# Altium integrated library Cypress PLD Quantum38K.IntLib: 24 symbols (part 3 of 3)
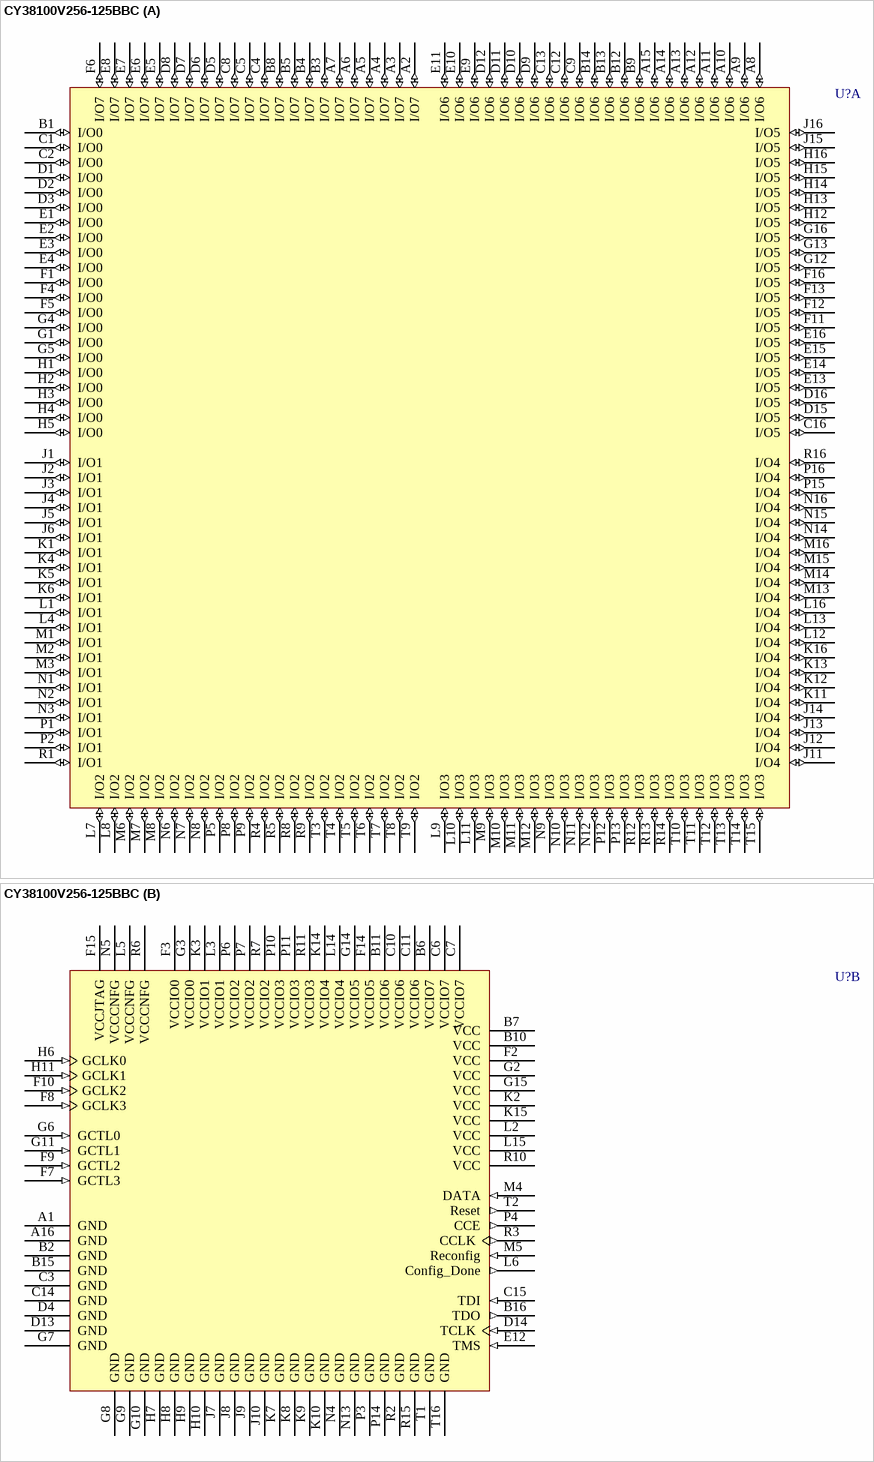
[diagram p19: symbol CY38100V256-125BBC]

## CY38100V256-125BBC
designator U?
Quantum38K ISR CPLD; ComponentAvailability: Not for New Design; Published: 11-Dec-2002; LatestRevisionDate: 13-Apr-2006; LatestRevisionNote: IPC-7351 Footprint Added.; DatasheetVersion: 17-Apr-2002; PackageVersion: revF, Oct-2003; PackageReference: BB256; Publisher: Altium Limited; PackageDescription: 256-Ball Fine Pitch Ball Grid Array 1 mm Pitch (37K & 39K CPLD Devices); Code_JEDEC: MO-192; ComponentLink1Description: Manufacturer Link; ComponentLink1URL: http://www.cypress.com/; ComponentLink2Description: Datasheet; ComponentLink2URL: http://www.cypress.com/portal/server.pt/gateway/PTARGS_0_2_1524_209_259_43/http%3B/sjapp20.mis.cypress.com%3B7001/publishedcontent/publish/design_resources/datasheets/contents/cy38030_5.pdf
footprint BB256 (BGA, 256-Leads, Body 17x17mm, Pitch 1mm)
3D model CY38100V256-BB256 (256-Ball Fine Pitch Ball Grid Array 1 mm Pitch (37K & 39K CPLD Devices))
part A pins: A2 I/O7 (io), A3 I/O7 (io), A4 I/O7 (io), A5 I/O7 (io), A6 I/O7 (io), A7 I/O7 (io), A8 I/O6 (io), A9 I/O6 (io), A10 I/O6 (io), A11 I/O6 (io), A12 I/O6 (io), A13 I/O6 (io), A14 I/O6 (io), A15 I/O6 (io), B1 I/O0 (io), B3 I/O7 (io), B4 I/O7 (io), B5 I/O7 (io), B8 I/O7 (io), B9 I/O6 (io), B12 I/O6 (io), B13 I/O6 (io), B14 I/O6 (io), C1 I/O0 (io), C2 I/O0 (io), C4 I/O7 (io), C5 I/O7 (io), C8 I/O7 (io), C9 I/O6 (io), C12 I/O6 (io), C13 I/O6 (io), C16 I/O5 (io), D1 I/O0 (io), D2 I/O0 (io), D3 I/O0 (io), D5 I/O7 (io), D6 I/O7 (io), D7 I/O7 (io), D8 I/O7 (io), D9 I/O6 (io), D10 I/O6 (io), D11 I/O6 (io), D12 I/O6 (io), D15 I/O5 (io), D16 I/O5 (io), E1 I/O0 (io), E2 I/O0 (io), E3 I/O0 (io), E4 I/O0 (io), E5 I/O7 (io), E6 I/O7 (io), E7 I/O7 (io), E8 I/O7 (io), E9 I/O6 (io), E10 I/O6 (io), E11 I/O6 (io), E13 I/O5 (io), E14 I/O5 (io), E15 I/O5 (io), E16 I/O5 (io), F1 I/O0 (io), F4 I/O0 (io), F5 I/O0 (io), F6 I/O7 (io), F11 I/O5 (io), F12 I/O5 (io), F13 I/O5 (io), F16 I/O5 (io), G1 I/O0 (io), G4 I/O0 (io), G5 I/O0 (io), G12 I/O5 (io), G13 I/O5 (io), G16 I/O5 (io), H1 I/O0 (io), H2 I/O0 (io), H3 I/O0 (io), H4 I/O0 (io), H5 I/O0 (io), H12 I/O5 (io), H13 I/O5 (io), H14 I/O5 (io), H15 I/O5 (io), H16 I/O5 (io), J1 I/O1 (io), J2 I/O1 (io), J3 I/O1 (io), J4 I/O1 (io), J5 I/O1 (io), J6 I/O1 (io), J11 I/O4 (io), J12 I/O4 (io), J13 I/O4 (io), J14 I/O4 (io), J15 I/O5 (io), J16 I/O5 (io), K1 I/O1 (io), K4 I/O1 (io), K5 I/O1 (io), K6 I/O1 (io), K11 I/O4 (io), K12 I/O4 (io), K13 I/O4 (io), K16 I/O4 (io), L1 I/O1 (io), L4 I/O1 (io), L7 I/O2 (io), L8 I/O2 (io), L9 I/O3 (io), L10 I/O3 (io), L11 I/O3 (io), L12 I/O4 (io), L13 I/O4 (io), L16 I/O4 (io), M1 I/O1 (io), M2 I/O1 (io), M3 I/O1 (io), M6 I/O2 (io), M7 I/O2 (io), M8 I/O2 (io), M9 I/O3 (io), M10 I/O3 (io), M11 I/O3 (io), M12 I/O3 (io), M13 I/O4 (io), M14 I/O4 (io), M15 I/O4 (io), M16 I/O4 (io), N1 I/O1 (io), N2 I/O1 (io), N3 I/O1 (io), N6 I/O2 (io), N7 I/O2 (io), N8 I/O2 (io), N9 I/O3 (io), N10 I/O3 (io), N11 I/O3 (io), N12 I/O3 (io), N14 I/O4 (io), N15 I/O4 (io), N16 I/O4 (io), P1 I/O1 (io), P2 I/O1 (io), P5 I/O2 (io), P8 I/O2 (io), P9 I/O2 (io), P12 I/O3 (io), P13 I/O3 (io), P15 I/O4 (io), P16 I/O4 (io), R1 I/O1 (io), R4 I/O2 (io), R5 I/O2 (io), R8 I/O2 (io), R9 I/O2 (io), R12 I/O3 (io), R13 I/O3 (io), R14 I/O3 (io), R16 I/O4 (io), T3 I/O2 (io), T4 I/O2 (io), T5 I/O2 (io), T6 I/O2 (io), T7 I/O2 (io), T8 I/O2 (io), T9 I/O2 (io), T10 I/O3 (io), T11 I/O3 (io), T12 I/O3 (io), T13 I/O3 (io), T14 I/O3 (io), T15 I/O3 (io)
part B pins: A1 GND (power), A16 GND (power), B2 GND (power), B6 VCCIO7 (power), B7 VCC (power), B10 VCC (power), B11 VCCIO6 (power), B15 GND (power), B16 TDO (out), C3 GND (power), C6 VCCIO7 (power), C7 VCCIO7 (power), C10 VCCIO6 (power), C11 VCCIO6 (power), C14 GND (power), C15 TDI (in), D4 GND (power), D13 GND (power), D14 TCLK (in), E12 TMS (in), F2 VCC (power), F3 VCCIO0 (power), F7 GCTL3 (in), F8 GCLK3 (in), F9 GCTL2 (in), F10 GCLK2 (in), F14 VCCIO5 (power), F15 VCCJTAG (power), G2 VCC (power), G3 VCCIO0 (power), G6 GCTL0 (in), G7 GND (power), G8 GND (power), G9 GND (power), G10 GND (power), G11 GCTL1 (in), G14 VCCIO5 (power), G15 VCC (power), H6 GCLK0 (in), H7 GND (power), H8 GND (power), H9 GND (power), H10 GND (power), H11 GCLK1 (in), J7 GND (power), J8 GND (power), J9 GND (power), J10 GND (power), K2 VCC (power), K3 VCCIO1 (power), K7 GND (power), K8 GND (power), K9 GND (power), K10 GND (power), K14 VCCIO4 (power), K15 VCC (power), L2 VCC (power), L3 VCCIO1 (power), L5 VCCCNFG (power), L6 Config_Done (out), L14 VCCIO4 (power), L15 VCC (power), M4 DATA (in), M5 Reconfig (in), N4 GND (power), N5 VCCCNFG (power), N13 GND (power), P3 GND (power), P4 CCE (out), P6 VCCIO2 (power), P7 VCCIO2 (power), P10 VCCIO3 (power), P11 VCCIO3 (power), P14 GND (power), R2 GND (power), R3 CCLK (out), R6 VCCCNFG (power), R7 VCCIO2 (power), R10 VCC (power), R11 VCCIO3 (power), R15 GND (power), T1 GND (power), T2 Reset (out), T16 GND (power)

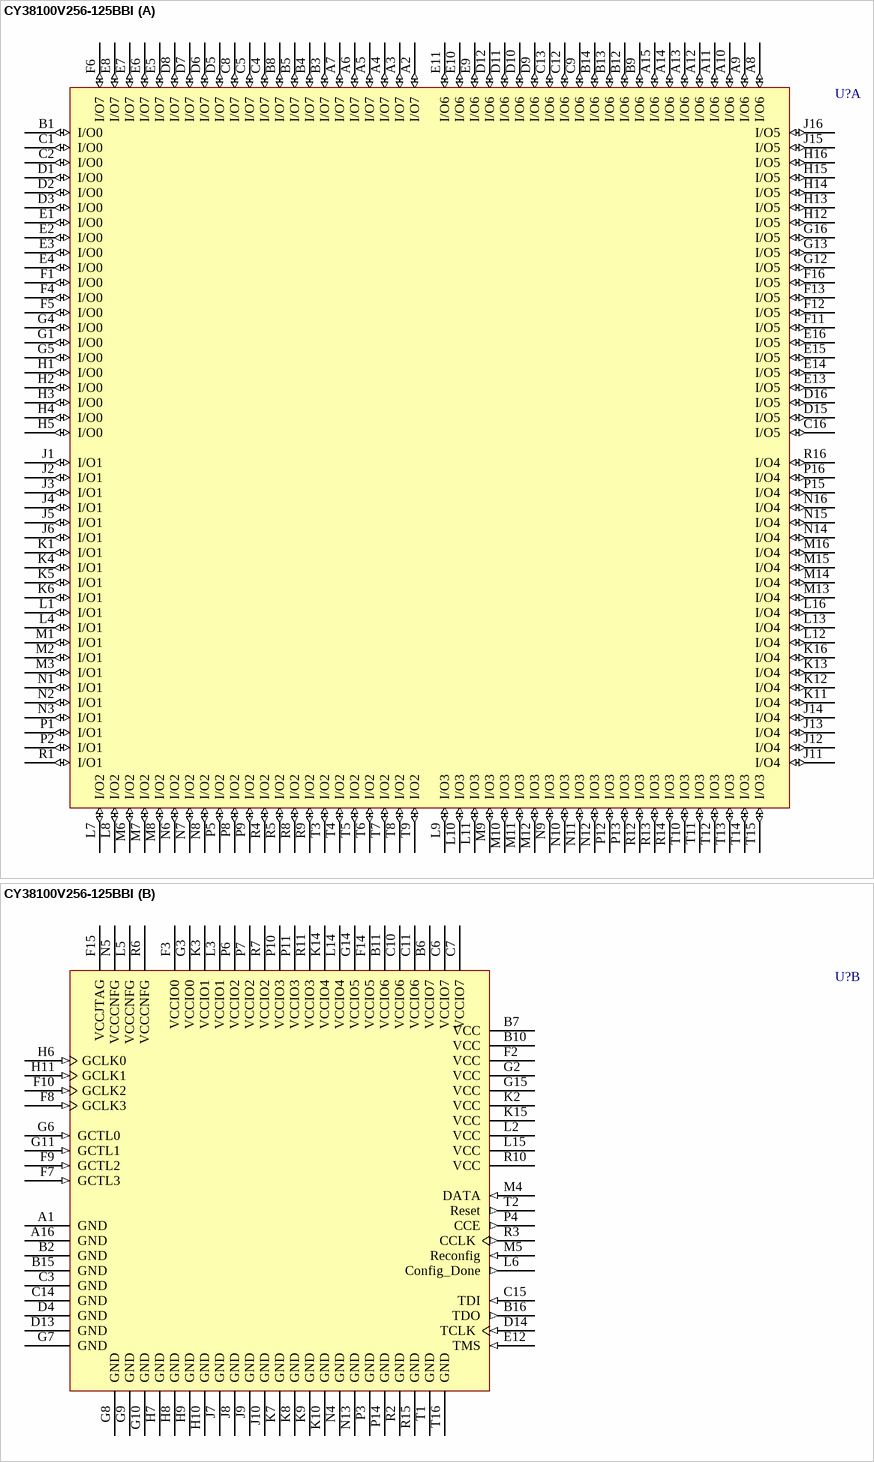
[diagram p14: symbol CY38100V256-125BBI]

## CY38100V256-125BBI
designator U?
Quantum38K ISR CPLD; ComponentAvailability: Not for New Design; Published: 11-Dec-2002; LatestRevisionDate: 13-Apr-2006; LatestRevisionNote: IPC-7351 Footprint Added.; DatasheetVersion: 17-Apr-2002; PackageVersion: revF, Oct-2003; PackageReference: BB256; Publisher: Altium Limited; PackageDescription: 256-Ball Fine Pitch Ball Grid Array 1 mm Pitch (37K & 39K CPLD Devices); Code_JEDEC: MO-192; ComponentLink1Description: Manufacturer Link; ComponentLink1URL: http://www.cypress.com/; ComponentLink2Description: Datasheet; ComponentLink2URL: http://www.cypress.com/portal/server.pt/gateway/PTARGS_0_2_1524_209_259_43/http%3B/sjapp20.mis.cypress.com%3B7001/publishedcontent/publish/design_resources/datasheets/contents/cy38030_5.pdf
footprint BB256 (BGA, 256-Leads, Body 17x17mm, Pitch 1mm)
3D model CY38100V256-BB256 (256-Ball Fine Pitch Ball Grid Array 1 mm Pitch (37K & 39K CPLD Devices))
part A pins: A2 I/O7 (io), A3 I/O7 (io), A4 I/O7 (io), A5 I/O7 (io), A6 I/O7 (io), A7 I/O7 (io), A8 I/O6 (io), A9 I/O6 (io), A10 I/O6 (io), A11 I/O6 (io), A12 I/O6 (io), A13 I/O6 (io), A14 I/O6 (io), A15 I/O6 (io), B1 I/O0 (io), B3 I/O7 (io), B4 I/O7 (io), B5 I/O7 (io), B8 I/O7 (io), B9 I/O6 (io), B12 I/O6 (io), B13 I/O6 (io), B14 I/O6 (io), C1 I/O0 (io), C2 I/O0 (io), C4 I/O7 (io), C5 I/O7 (io), C8 I/O7 (io), C9 I/O6 (io), C12 I/O6 (io), C13 I/O6 (io), C16 I/O5 (io), D1 I/O0 (io), D2 I/O0 (io), D3 I/O0 (io), D5 I/O7 (io), D6 I/O7 (io), D7 I/O7 (io), D8 I/O7 (io), D9 I/O6 (io), D10 I/O6 (io), D11 I/O6 (io), D12 I/O6 (io), D15 I/O5 (io), D16 I/O5 (io), E1 I/O0 (io), E2 I/O0 (io), E3 I/O0 (io), E4 I/O0 (io), E5 I/O7 (io), E6 I/O7 (io), E7 I/O7 (io), E8 I/O7 (io), E9 I/O6 (io), E10 I/O6 (io), E11 I/O6 (io), E13 I/O5 (io), E14 I/O5 (io), E15 I/O5 (io), E16 I/O5 (io), F1 I/O0 (io), F4 I/O0 (io), F5 I/O0 (io), F6 I/O7 (io), F11 I/O5 (io), F12 I/O5 (io), F13 I/O5 (io), F16 I/O5 (io), G1 I/O0 (io), G4 I/O0 (io), G5 I/O0 (io), G12 I/O5 (io), G13 I/O5 (io), G16 I/O5 (io), H1 I/O0 (io), H2 I/O0 (io), H3 I/O0 (io), H4 I/O0 (io), H5 I/O0 (io), H12 I/O5 (io), H13 I/O5 (io), H14 I/O5 (io), H15 I/O5 (io), H16 I/O5 (io), J1 I/O1 (io), J2 I/O1 (io), J3 I/O1 (io), J4 I/O1 (io), J5 I/O1 (io), J6 I/O1 (io), J11 I/O4 (io), J12 I/O4 (io), J13 I/O4 (io), J14 I/O4 (io), J15 I/O5 (io), J16 I/O5 (io), K1 I/O1 (io), K4 I/O1 (io), K5 I/O1 (io), K6 I/O1 (io), K11 I/O4 (io), K12 I/O4 (io), K13 I/O4 (io), K16 I/O4 (io), L1 I/O1 (io), L4 I/O1 (io), L7 I/O2 (io), L8 I/O2 (io), L9 I/O3 (io), L10 I/O3 (io), L11 I/O3 (io), L12 I/O4 (io), L13 I/O4 (io), L16 I/O4 (io), M1 I/O1 (io), M2 I/O1 (io), M3 I/O1 (io), M6 I/O2 (io), M7 I/O2 (io), M8 I/O2 (io), M9 I/O3 (io), M10 I/O3 (io), M11 I/O3 (io), M12 I/O3 (io), M13 I/O4 (io), M14 I/O4 (io), M15 I/O4 (io), M16 I/O4 (io), N1 I/O1 (io), N2 I/O1 (io), N3 I/O1 (io), N6 I/O2 (io), N7 I/O2 (io), N8 I/O2 (io), N9 I/O3 (io), N10 I/O3 (io), N11 I/O3 (io), N12 I/O3 (io), N14 I/O4 (io), N15 I/O4 (io), N16 I/O4 (io), P1 I/O1 (io), P2 I/O1 (io), P5 I/O2 (io), P8 I/O2 (io), P9 I/O2 (io), P12 I/O3 (io), P13 I/O3 (io), P15 I/O4 (io), P16 I/O4 (io), R1 I/O1 (io), R4 I/O2 (io), R5 I/O2 (io), R8 I/O2 (io), R9 I/O2 (io), R12 I/O3 (io), R13 I/O3 (io), R14 I/O3 (io), R16 I/O4 (io), T3 I/O2 (io), T4 I/O2 (io), T5 I/O2 (io), T6 I/O2 (io), T7 I/O2 (io), T8 I/O2 (io), T9 I/O2 (io), T10 I/O3 (io), T11 I/O3 (io), T12 I/O3 (io), T13 I/O3 (io), T14 I/O3 (io), T15 I/O3 (io)
part B pins: A1 GND (power), A16 GND (power), B2 GND (power), B6 VCCIO7 (power), B7 VCC (power), B10 VCC (power), B11 VCCIO6 (power), B15 GND (power), B16 TDO (out), C3 GND (power), C6 VCCIO7 (power), C7 VCCIO7 (power), C10 VCCIO6 (power), C11 VCCIO6 (power), C14 GND (power), C15 TDI (in), D4 GND (power), D13 GND (power), D14 TCLK (in), E12 TMS (in), F2 VCC (power), F3 VCCIO0 (power), F7 GCTL3 (in), F8 GCLK3 (in), F9 GCTL2 (in), F10 GCLK2 (in), F14 VCCIO5 (power), F15 VCCJTAG (power), G2 VCC (power), G3 VCCIO0 (power), G6 GCTL0 (in), G7 GND (power), G8 GND (power), G9 GND (power), G10 GND (power), G11 GCTL1 (in), G14 VCCIO5 (power), G15 VCC (power), H6 GCLK0 (in), H7 GND (power), H8 GND (power), H9 GND (power), H10 GND (power), H11 GCLK1 (in), J7 GND (power), J8 GND (power), J9 GND (power), J10 GND (power), K2 VCC (power), K3 VCCIO1 (power), K7 GND (power), K8 GND (power), K9 GND (power), K10 GND (power), K14 VCCIO4 (power), K15 VCC (power), L2 VCC (power), L3 VCCIO1 (power), L5 VCCCNFG (power), L6 Config_Done (out), L14 VCCIO4 (power), L15 VCC (power), M4 DATA (in), M5 Reconfig (in), N4 GND (power), N5 VCCCNFG (power), N13 GND (power), P3 GND (power), P4 CCE (out), P6 VCCIO2 (power), P7 VCCIO2 (power), P10 VCCIO3 (power), P11 VCCIO3 (power), P14 GND (power), R2 GND (power), R3 CCLK (out), R6 VCCCNFG (power), R7 VCCIO2 (power), R10 VCC (power), R11 VCCIO3 (power), R15 GND (power), T1 GND (power), T2 Reset (out), T16 GND (power)

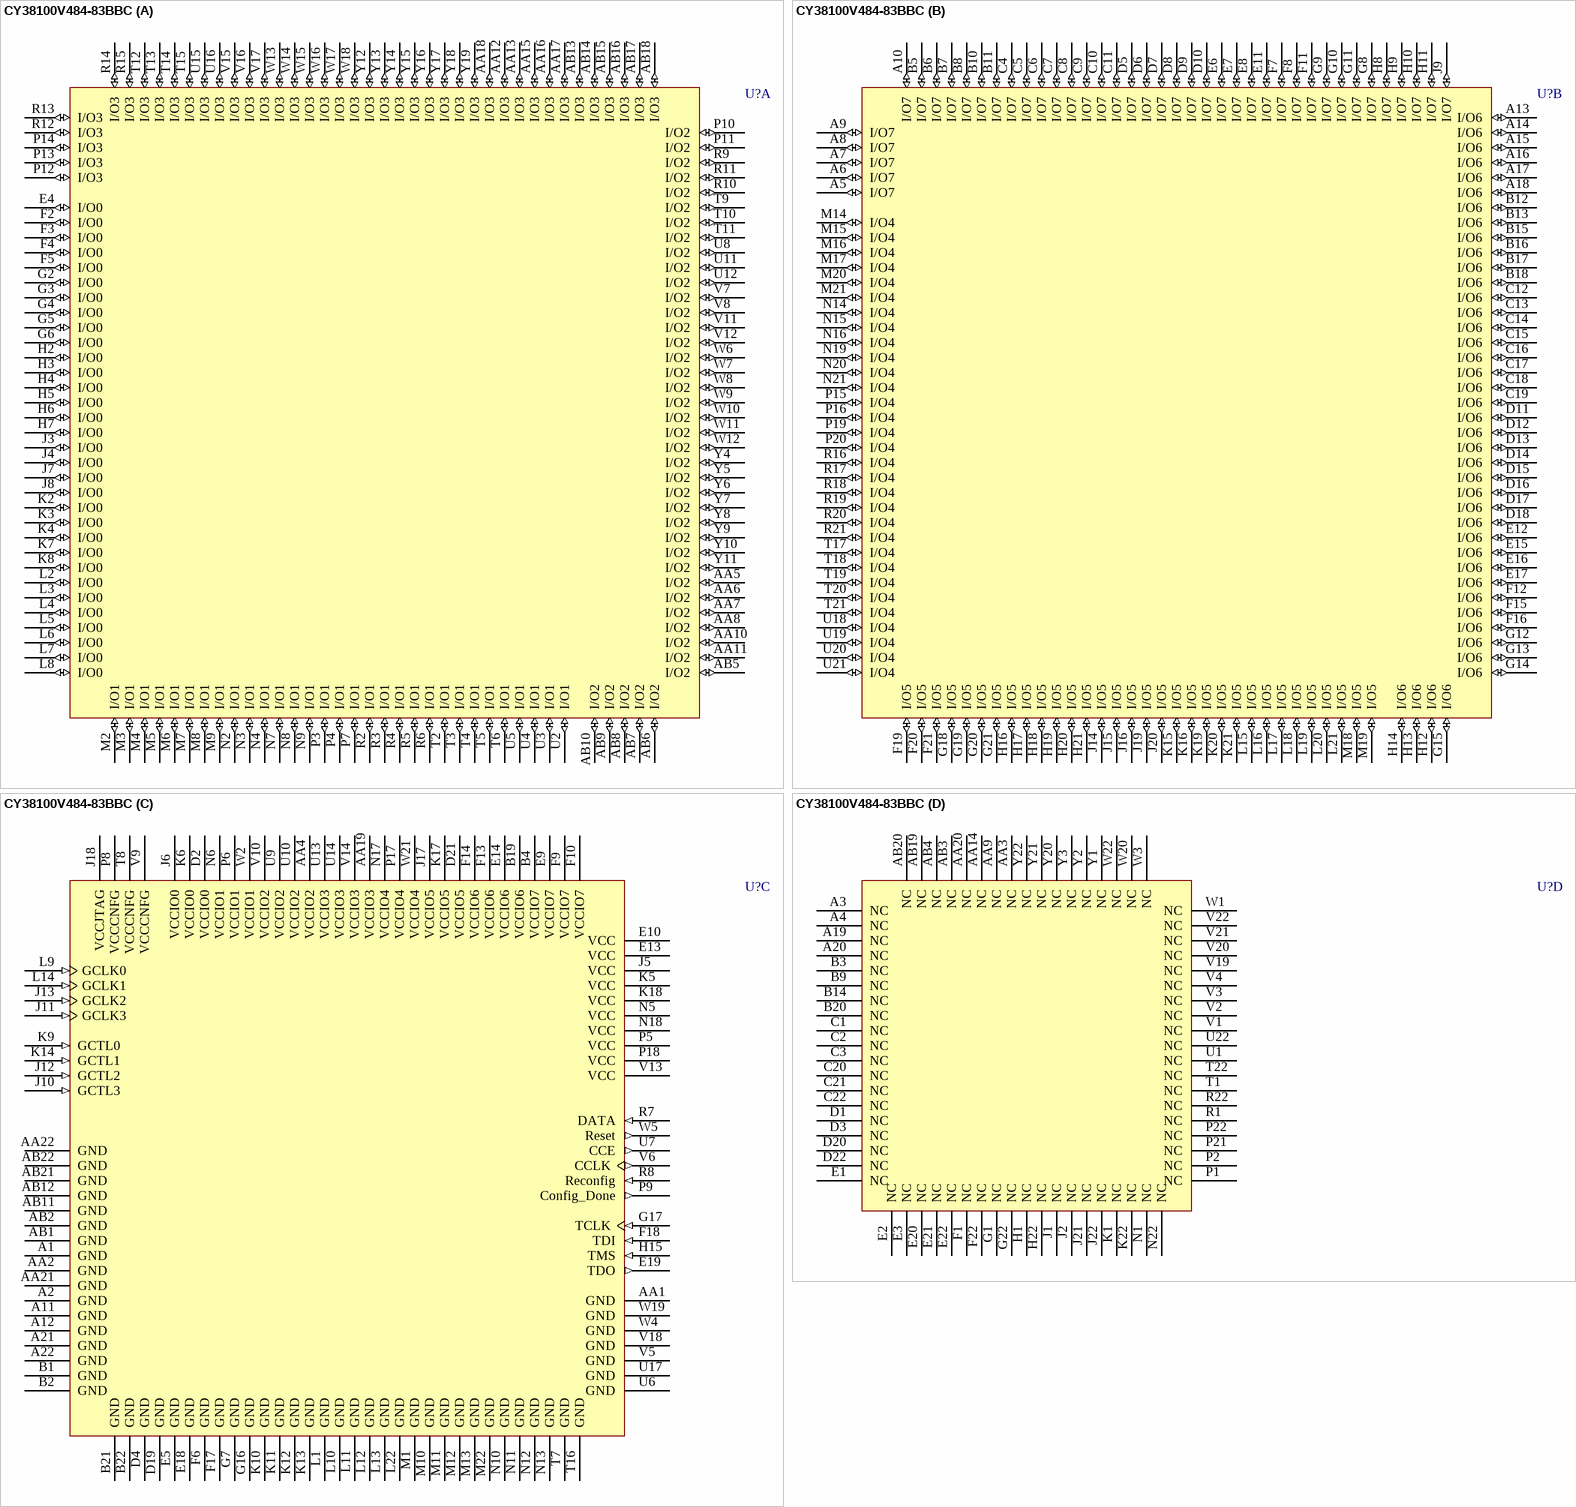
[diagram p15: symbol CY38100V484-83BBC]

## CY38100V484-83BBC
designator U?
Quantum38K ISR CPLD; ComponentAvailability: Not for New Design; Published: 11-Dec-2002; LatestRevisionDate: 13-Apr-2006; LatestRevisionNote: IPC-7351 Footprint Added.; DatasheetVersion: 17-Apr-2002; PackageVersion: Mar-2005; PackageReference: BB484; Publisher: Altium Limited; PackageDescription: 484-Ball Fine Pitch Ball Grid Array 1 mm Pitch; Code_IPC: BGA100P22X22-484; ComponentLink1Description: Manufacturer Link; ComponentLink1URL: http://www.cypress.com/; ComponentLink2Description: Datasheet; ComponentLink2URL: http://www.cypress.com/portal/server.pt/gateway/PTARGS_0_2_1524_209_259_43/http%3B/sjapp20.mis.cypress.com%3B7001/publishedcontent/publish/design_resources/datasheets/contents/cy38030_5.pdf
footprint BB484 (BGA, 484-Leads, Body 23x23mm, Pitch 1mm)
3D model CY38100V484-BB484 (484-Ball Fine Pitch Ball Grid Array 1 mm Pitch)
part A pins: AA5 I/O2 (io), AA6 I/O2 (io), AA7 I/O2 (io), AA8 I/O2 (io), AA10 I/O2 (io), AA11 I/O2 (io), AA12 I/O3 (io), AA13 I/O3 (io), AA15 I/O3 (io), AA16 I/O3 (io), AA17 I/O3 (io), AA18 I/O3 (io), AB5 I/O2 (io), AB6 I/O2 (io), AB7 I/O2 (io), AB8 I/O2 (io), AB9 I/O2 (io), AB10 I/O2 (io), AB13 I/O3 (io), AB14 I/O3 (io), AB15 I/O3 (io), AB16 I/O3 (io), AB17 I/O3 (io), AB18 I/O3 (io), E4 I/O0 (io), F2 I/O0 (io), F3 I/O0 (io), F4 I/O0 (io), F5 I/O0 (io), G2 I/O0 (io), G3 I/O0 (io), G4 I/O0 (io), G5 I/O0 (io), G6 I/O0 (io), H2 I/O0 (io), H3 I/O0 (io), H4 I/O0 (io), H5 I/O0 (io), H6 I/O0 (io), H7 I/O0 (io), J3 I/O0 (io), J4 I/O0 (io), J7 I/O0 (io), J8 I/O0 (io), K2 I/O0 (io), K3 I/O0 (io), K4 I/O0 (io), K7 I/O0 (io), K8 I/O0 (io), L2 I/O0 (io), L3 I/O0 (io), L4 I/O0 (io), L5 I/O0 (io), L6 I/O0 (io), L7 I/O0 (io), L8 I/O0 (io), M2 I/O1 (io), M3 I/O1 (io), M4 I/O1 (io), M5 I/O1 (io), M6 I/O1 (io), M7 I/O1 (io), M8 I/O1 (io), M9 I/O1 (io), N2 I/O1 (io), N3 I/O1 (io), N4 I/O1 (io), N7 I/O1 (io), N8 I/O1 (io), N9 I/O1 (io), P3 I/O1 (io), P4 I/O1 (io), P7 I/O1 (io), P10 I/O2 (io), P11 I/O2 (io), P12 I/O3 (io), P13 I/O3 (io), P14 I/O3 (io), R2 I/O1 (io), R3 I/O1 (io), R4 I/O1 (io), R5 I/O1 (io), R6 I/O1 (io), R9 I/O2 (io), R10 I/O2 (io), R11 I/O2 (io), R12 I/O3 (io), R13 I/O3 (io), R14 I/O3 (io), R15 I/O3 (io), T2 I/O1 (io), T3 I/O1 (io), T4 I/O1 (io), T5 I/O1 (io), T6 I/O1 (io), T9 I/O2 (io), T10 I/O2 (io), T11 I/O2 (io), T12 I/O3 (io), T13 I/O3 (io), T14 I/O3 (io), T15 I/O3 (io), U2 I/O1 (io), U3 I/O1 (io), U4 I/O1 (io), U5 I/O1 (io), U8 I/O2 (io), U11 I/O2 (io), U12 I/O2 (io), U15 I/O3 (io), U16 I/O3 (io), V7 I/O2 (io), V8 I/O2 (io), V11 I/O2 (io), V12 I/O2 (io), V15 I/O3 (io), V16 I/O3 (io), V17 I/O3 (io), W6 I/O2 (io), W7 I/O2 (io), W8 I/O2 (io), W9 I/O2 (io), W10 I/O2 (io), W11 I/O2 (io), W12 I/O2 (io), W13 I/O3 (io), W14 I/O3 (io), W15 I/O3 (io), W16 I/O3 (io), W17 I/O3 (io), W18 I/O3 (io), Y4 I/O2 (io), Y5 I/O2 (io), Y6 I/O2 (io), Y7 I/O2 (io), Y8 I/O2 (io), Y9 I/O2 (io), Y10 I/O2 (io), Y11 I/O2 (io), Y12 I/O3 (io), Y13 I/O3 (io), Y14 I/O3 (io), Y15 I/O3 (io), Y16 I/O3 (io), Y17 I/O3 (io), Y18 I/O3 (io), Y19 I/O3 (io)
part B pins: A5 I/O7 (io), A6 I/O7 (io), A7 I/O7 (io), A8 I/O7 (io), A9 I/O7 (io), A10 I/O7 (io), A13 I/O6 (io), A14 I/O6 (io), A15 I/O6 (io), A16 I/O6 (io), A17 I/O6 (io), A18 I/O6 (io), B5 I/O7 (io), B6 I/O7 (io), B7 I/O7 (io), B8 I/O7 (io), B10 I/O7 (io), B11 I/O7 (io), B12 I/O6 (io), B13 I/O6 (io), B15 I/O6 (io), B16 I/O6 (io), B17 I/O6 (io), B18 I/O6 (io), C4 I/O7 (io), C5 I/O7 (io), C6 I/O7 (io), C7 I/O7 (io), C8 I/O7 (io), C9 I/O7 (io), C10 I/O7 (io), C11 I/O7 (io), C12 I/O6 (io), C13 I/O6 (io), C14 I/O6 (io), C15 I/O6 (io), C16 I/O6 (io), C17 I/O6 (io), C18 I/O6 (io), C19 I/O6 (io), D5 I/O7 (io), D6 I/O7 (io), D7 I/O7 (io), D8 I/O7 (io), D9 I/O7 (io), D10 I/O7 (io), D11 I/O6 (io), D12 I/O6 (io), D13 I/O6 (io), D14 I/O6 (io), D15 I/O6 (io), D16 I/O6 (io), D17 I/O6 (io), D18 I/O6 (io), E6 I/O7 (io), E7 I/O7 (io), E8 I/O7 (io), E11 I/O7 (io), E12 I/O6 (io), E15 I/O6 (io), E16 I/O6 (io), E17 I/O6 (io), F7 I/O7 (io), F8 I/O7 (io), F11 I/O7 (io), F12 I/O6 (io), F15 I/O6 (io), F16 I/O6 (io), F19 I/O5 (io), F20 I/O5 (io), F21 I/O5 (io), G8 I/O7 (io), G9 I/O7 (io), G10 I/O7 (io), G11 I/O7 (io), G12 I/O6 (io), G13 I/O6 (io), G14 I/O6 (io), G15 I/O6 (io), G18 I/O5 (io), G19 I/O5 (io), G20 I/O5 (io), G21 I/O5 (io), H8 I/O7 (io), H9 I/O7 (io), H10 I/O7 (io), H11 I/O7 (io), H12 I/O6 (io), H13 I/O6 (io), H14 I/O6 (io), H16 I/O5 (io), H17 I/O5 (io), H18 I/O5 (io), H19 I/O5 (io), H20 I/O5 (io), H21 I/O5 (io), J9 I/O7 (io), J14 I/O5 (io), J15 I/O5 (io), J16 I/O5 (io), J19 I/O5 (io), J20 I/O5 (io), K15 I/O5 (io), K16 I/O5 (io), K19 I/O5 (io), K20 I/O5 (io), K21 I/O5 (io), L15 I/O5 (io), L16 I/O5 (io), L17 I/O5 (io), L18 I/O5 (io), L19 I/O5 (io), L20 I/O5 (io), L21 I/O5 (io), M14 I/O4 (io), M15 I/O4 (io), M16 I/O4 (io), M17 I/O4 (io), M18 I/O5 (io), M19 I/O5 (io), M20 I/O4 (io), M21 I/O4 (io), N14 I/O4 (io), N15 I/O4 (io), N16 I/O4 (io), N19 I/O4 (io), N20 I/O4 (io), N21 I/O4 (io), P15 I/O4 (io), P16 I/O4 (io), P19 I/O4 (io), P20 I/O4 (io), R16 I/O4 (io), R17 I/O4 (io), R18 I/O4 (io), R19 I/O4 (io), R20 I/O4 (io), R21 I/O4 (io), T17 I/O4 (io), T18 I/O4 (io), T19 I/O4 (io), T20 I/O4 (io), T21 I/O4 (io), U18 I/O4 (io), U19 I/O4 (io), U20 I/O4 (io), U21 I/O4 (io)
part C pins: A1 GND (power), A2 GND (power), A11 GND (power), A12 GND (power), A21 GND (power), A22 GND (power), AA1 GND (power), AA2 GND (power), AA4 VCCIO2 (power), AA19 VCCIO3 (power), AA21 GND (power), AA22 GND (power), AB1 GND (power), AB2 GND (power), AB11 GND (power), AB12 GND (power), AB21 GND (power), AB22 GND (power), B1 GND (power), B2 GND (power), B4 VCCIO7 (power), B19 VCCIO6 (power), B21 GND (power), B22 GND (power), D2 VCCIO0 (power), D4 GND (power), D19 GND (power), D21 VCCIO5 (power), E5 GND (power), E9 VCCIO7 (power), E10 VCC (power), E13 VCC (power), E14 VCCIO6 (power), E18 GND (power), E19 TDO (out), F6 GND (power), F9 VCCIO7 (power), F10 VCCIO7 (power), F13 VCCIO6 (power), F14 VCCIO6 (power), F17 GND (power), F18 TDI (in), G7 GND (power), G16 GND (power), G17 TCLK (in), H15 TMS (in), J5 VCC (power), J6 VCCIO0 (power), J10 GCTL3 (in), J11 GCLK3 (in), J12 GCTL2 (in), J13 GCLK2 (in), J17 VCCIO5 (power), J18 VCCJTAG (power), K5 VCC (power), K6 VCCIO0 (power), K9 GCTL0 (in), K10 GND (power), K11 GND (power), K12 GND (power), K13 GND (power), K14 GCTL1 (in), K17 VCCIO5 (power), K18 VCC (power), L1 GND (power), L9 GCLK0 (in), L10 GND (power), L11 GND (power), L12 GND (power), L13 GND (power), L14 GCLK1 (in), L22 GND (power), M1 GND (power), M10 GND (power), M11 GND (power), M12 GND (power), M13 GND (power), M22 GND (power), N5 VCC (power), N6 VCCIO1 (power), N10 GND (power), N11 GND (power), N12 GND (power), N13 GND (power), N17 VCCIO4 (power), N18 VCC (power), P5 VCC (power), P6 VCCIO1 (power), P8 VCCCNFG (power), P9 Config_Done (out), P17 VCCIO4 (power), P18 VCC (power), R7 DATA (in), R8 Reconfig (in), T7 GND (power), T8 VCCCNFG (power), T16 GND (power), U6 GND (power), U7 CCE (out), U9 VCCIO2 (power), U10 VCCIO2 (power), U13 VCCIO3 (power), U14 VCCIO3 (power), U17 GND (power), V5 GND (power), V6 CCLK (out), V9 VCCCNFG (power), V10 VCCIO2 (power), V13 VCC (power), V14 VCCIO3 (power), V18 GND (power), W2 VCCIO1 (power), W4 GND (power), W5 Reset (out), W19 GND (power), W21 VCCIO4 (power)
part D pins: A3 NC, A4 NC, A19 NC, A20 NC, AA3 NC, AA9 NC, AA14 NC, AA20 NC, AB3 NC, AB4 NC, AB19 NC, AB20 NC, B3 NC, B9 NC, B14 NC, B20 NC, C1 NC, C2 NC, C3 NC, C20 NC, C21 NC, C22 NC, D1 NC, D3 NC, D20 NC, D22 NC, E1 NC, E2 NC, E3 NC, E20 NC, E21 NC, E22 NC, F1 NC, F22 NC, G1 NC, G22 NC, H1 NC, H22 NC, J1 NC, J2 NC, J21 NC, J22 NC, K1 NC, K22 NC, N1 NC, N22 NC, P1 NC, P2 NC, P21 NC, P22 NC, R1 NC, R22 NC, T1 NC, T22 NC, U1 NC, U22 NC, V1 NC, V2 NC, V3 NC, V4 NC, V19 NC, V20 NC, V21 NC, V22 NC, W1 NC, W3 NC, W20 NC, W22 NC, Y1 NC, Y2 NC, Y3 NC, Y20 NC, Y21 NC, Y22 NC

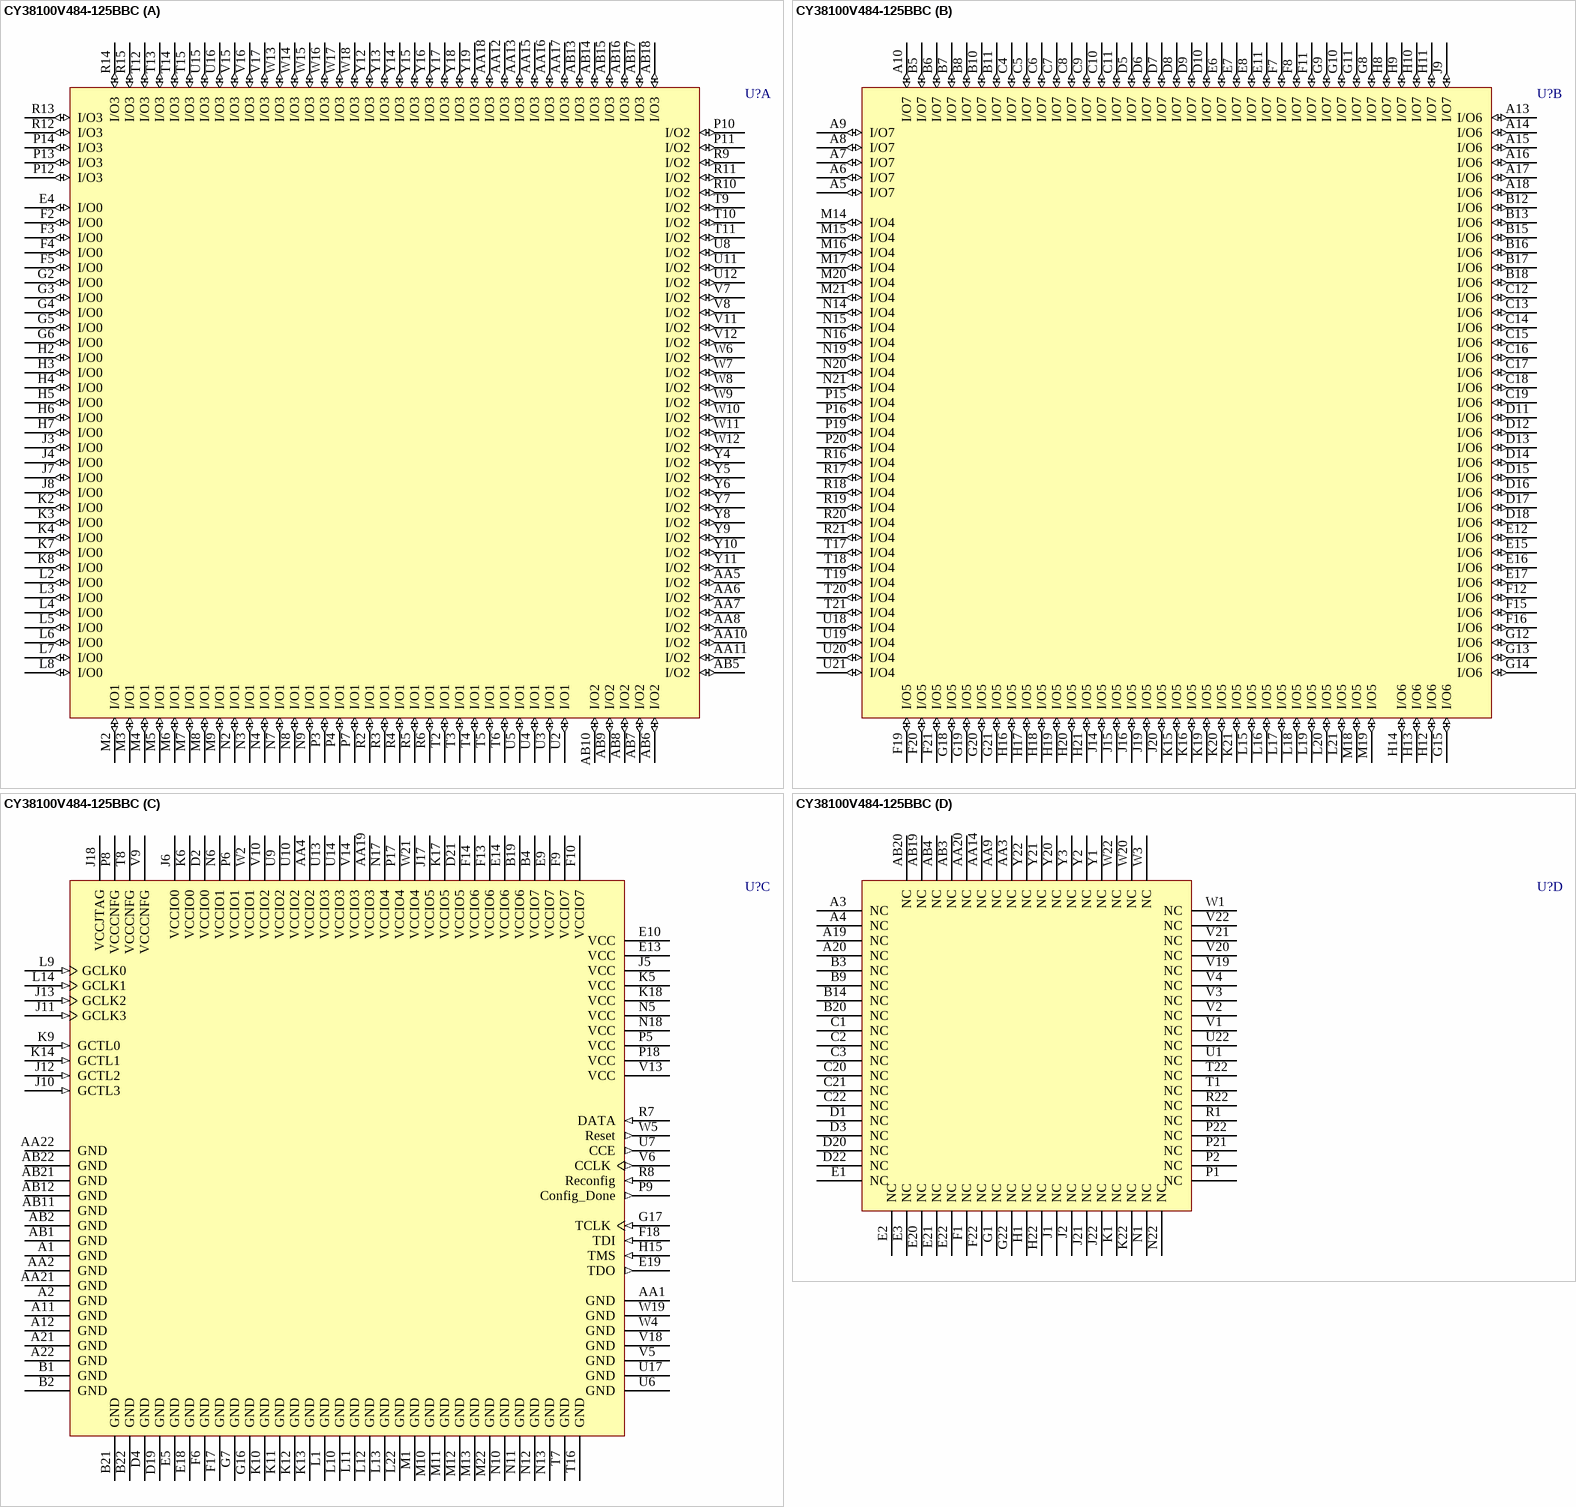
[diagram p16: symbol CY38100V484-125BBC]

## CY38100V484-125BBC
designator U?
Quantum38K ISR CPLD; ComponentAvailability: Not for New Design; Published: 11-Dec-2002; LatestRevisionDate: 13-Apr-2006; LatestRevisionNote: IPC-7351 Footprint Added.; DatasheetVersion: 17-Apr-2002; PackageVersion: Mar-2005; PackageReference: BB484; Publisher: Altium Limited; PackageDescription: 484-Ball Fine Pitch Ball Grid Array 1 mm Pitch; Code_IPC: BGA100P22X22-484; ComponentLink1Description: Manufacturer Link; ComponentLink1URL: http://www.cypress.com/; ComponentLink2Description: Datasheet; ComponentLink2URL: http://www.cypress.com/portal/server.pt/gateway/PTARGS_0_2_1524_209_259_43/http%3B/sjapp20.mis.cypress.com%3B7001/publishedcontent/publish/design_resources/datasheets/contents/cy38030_5.pdf
footprint BB484 (BGA, 484-Leads, Body 23x23mm, Pitch 1mm)
3D model CY38100V484-BB484 (484-Ball Fine Pitch Ball Grid Array 1 mm Pitch)
part A pins: AA5 I/O2 (io), AA6 I/O2 (io), AA7 I/O2 (io), AA8 I/O2 (io), AA10 I/O2 (io), AA11 I/O2 (io), AA12 I/O3 (io), AA13 I/O3 (io), AA15 I/O3 (io), AA16 I/O3 (io), AA17 I/O3 (io), AA18 I/O3 (io), AB5 I/O2 (io), AB6 I/O2 (io), AB7 I/O2 (io), AB8 I/O2 (io), AB9 I/O2 (io), AB10 I/O2 (io), AB13 I/O3 (io), AB14 I/O3 (io), AB15 I/O3 (io), AB16 I/O3 (io), AB17 I/O3 (io), AB18 I/O3 (io), E4 I/O0 (io), F2 I/O0 (io), F3 I/O0 (io), F4 I/O0 (io), F5 I/O0 (io), G2 I/O0 (io), G3 I/O0 (io), G4 I/O0 (io), G5 I/O0 (io), G6 I/O0 (io), H2 I/O0 (io), H3 I/O0 (io), H4 I/O0 (io), H5 I/O0 (io), H6 I/O0 (io), H7 I/O0 (io), J3 I/O0 (io), J4 I/O0 (io), J7 I/O0 (io), J8 I/O0 (io), K2 I/O0 (io), K3 I/O0 (io), K4 I/O0 (io), K7 I/O0 (io), K8 I/O0 (io), L2 I/O0 (io), L3 I/O0 (io), L4 I/O0 (io), L5 I/O0 (io), L6 I/O0 (io), L7 I/O0 (io), L8 I/O0 (io), M2 I/O1 (io), M3 I/O1 (io), M4 I/O1 (io), M5 I/O1 (io), M6 I/O1 (io), M7 I/O1 (io), M8 I/O1 (io), M9 I/O1 (io), N2 I/O1 (io), N3 I/O1 (io), N4 I/O1 (io), N7 I/O1 (io), N8 I/O1 (io), N9 I/O1 (io), P3 I/O1 (io), P4 I/O1 (io), P7 I/O1 (io), P10 I/O2 (io), P11 I/O2 (io), P12 I/O3 (io), P13 I/O3 (io), P14 I/O3 (io), R2 I/O1 (io), R3 I/O1 (io), R4 I/O1 (io), R5 I/O1 (io), R6 I/O1 (io), R9 I/O2 (io), R10 I/O2 (io), R11 I/O2 (io), R12 I/O3 (io), R13 I/O3 (io), R14 I/O3 (io), R15 I/O3 (io), T2 I/O1 (io), T3 I/O1 (io), T4 I/O1 (io), T5 I/O1 (io), T6 I/O1 (io), T9 I/O2 (io), T10 I/O2 (io), T11 I/O2 (io), T12 I/O3 (io), T13 I/O3 (io), T14 I/O3 (io), T15 I/O3 (io), U2 I/O1 (io), U3 I/O1 (io), U4 I/O1 (io), U5 I/O1 (io), U8 I/O2 (io), U11 I/O2 (io), U12 I/O2 (io), U15 I/O3 (io), U16 I/O3 (io), V7 I/O2 (io), V8 I/O2 (io), V11 I/O2 (io), V12 I/O2 (io), V15 I/O3 (io), V16 I/O3 (io), V17 I/O3 (io), W6 I/O2 (io), W7 I/O2 (io), W8 I/O2 (io), W9 I/O2 (io), W10 I/O2 (io), W11 I/O2 (io), W12 I/O2 (io), W13 I/O3 (io), W14 I/O3 (io), W15 I/O3 (io), W16 I/O3 (io), W17 I/O3 (io), W18 I/O3 (io), Y4 I/O2 (io), Y5 I/O2 (io), Y6 I/O2 (io), Y7 I/O2 (io), Y8 I/O2 (io), Y9 I/O2 (io), Y10 I/O2 (io), Y11 I/O2 (io), Y12 I/O3 (io), Y13 I/O3 (io), Y14 I/O3 (io), Y15 I/O3 (io), Y16 I/O3 (io), Y17 I/O3 (io), Y18 I/O3 (io), Y19 I/O3 (io)
part B pins: A5 I/O7 (io), A6 I/O7 (io), A7 I/O7 (io), A8 I/O7 (io), A9 I/O7 (io), A10 I/O7 (io), A13 I/O6 (io), A14 I/O6 (io), A15 I/O6 (io), A16 I/O6 (io), A17 I/O6 (io), A18 I/O6 (io), B5 I/O7 (io), B6 I/O7 (io), B7 I/O7 (io), B8 I/O7 (io), B10 I/O7 (io), B11 I/O7 (io), B12 I/O6 (io), B13 I/O6 (io), B15 I/O6 (io), B16 I/O6 (io), B17 I/O6 (io), B18 I/O6 (io), C4 I/O7 (io), C5 I/O7 (io), C6 I/O7 (io), C7 I/O7 (io), C8 I/O7 (io), C9 I/O7 (io), C10 I/O7 (io), C11 I/O7 (io), C12 I/O6 (io), C13 I/O6 (io), C14 I/O6 (io), C15 I/O6 (io), C16 I/O6 (io), C17 I/O6 (io), C18 I/O6 (io), C19 I/O6 (io), D5 I/O7 (io), D6 I/O7 (io), D7 I/O7 (io), D8 I/O7 (io), D9 I/O7 (io), D10 I/O7 (io), D11 I/O6 (io), D12 I/O6 (io), D13 I/O6 (io), D14 I/O6 (io), D15 I/O6 (io), D16 I/O6 (io), D17 I/O6 (io), D18 I/O6 (io), E6 I/O7 (io), E7 I/O7 (io), E8 I/O7 (io), E11 I/O7 (io), E12 I/O6 (io), E15 I/O6 (io), E16 I/O6 (io), E17 I/O6 (io), F7 I/O7 (io), F8 I/O7 (io), F11 I/O7 (io), F12 I/O6 (io), F15 I/O6 (io), F16 I/O6 (io), F19 I/O5 (io), F20 I/O5 (io), F21 I/O5 (io), G8 I/O7 (io), G9 I/O7 (io), G10 I/O7 (io), G11 I/O7 (io), G12 I/O6 (io), G13 I/O6 (io), G14 I/O6 (io), G15 I/O6 (io), G18 I/O5 (io), G19 I/O5 (io), G20 I/O5 (io), G21 I/O5 (io), H8 I/O7 (io), H9 I/O7 (io), H10 I/O7 (io), H11 I/O7 (io), H12 I/O6 (io), H13 I/O6 (io), H14 I/O6 (io), H16 I/O5 (io), H17 I/O5 (io), H18 I/O5 (io), H19 I/O5 (io), H20 I/O5 (io), H21 I/O5 (io), J9 I/O7 (io), J14 I/O5 (io), J15 I/O5 (io), J16 I/O5 (io), J19 I/O5 (io), J20 I/O5 (io), K15 I/O5 (io), K16 I/O5 (io), K19 I/O5 (io), K20 I/O5 (io), K21 I/O5 (io), L15 I/O5 (io), L16 I/O5 (io), L17 I/O5 (io), L18 I/O5 (io), L19 I/O5 (io), L20 I/O5 (io), L21 I/O5 (io), M14 I/O4 (io), M15 I/O4 (io), M16 I/O4 (io), M17 I/O4 (io), M18 I/O5 (io), M19 I/O5 (io), M20 I/O4 (io), M21 I/O4 (io), N14 I/O4 (io), N15 I/O4 (io), N16 I/O4 (io), N19 I/O4 (io), N20 I/O4 (io), N21 I/O4 (io), P15 I/O4 (io), P16 I/O4 (io), P19 I/O4 (io), P20 I/O4 (io), R16 I/O4 (io), R17 I/O4 (io), R18 I/O4 (io), R19 I/O4 (io), R20 I/O4 (io), R21 I/O4 (io), T17 I/O4 (io), T18 I/O4 (io), T19 I/O4 (io), T20 I/O4 (io), T21 I/O4 (io), U18 I/O4 (io), U19 I/O4 (io), U20 I/O4 (io), U21 I/O4 (io)
part C pins: A1 GND (power), A2 GND (power), A11 GND (power), A12 GND (power), A21 GND (power), A22 GND (power), AA1 GND (power), AA2 GND (power), AA4 VCCIO2 (power), AA19 VCCIO3 (power), AA21 GND (power), AA22 GND (power), AB1 GND (power), AB2 GND (power), AB11 GND (power), AB12 GND (power), AB21 GND (power), AB22 GND (power), B1 GND (power), B2 GND (power), B4 VCCIO7 (power), B19 VCCIO6 (power), B21 GND (power), B22 GND (power), D2 VCCIO0 (power), D4 GND (power), D19 GND (power), D21 VCCIO5 (power), E5 GND (power), E9 VCCIO7 (power), E10 VCC (power), E13 VCC (power), E14 VCCIO6 (power), E18 GND (power), E19 TDO (out), F6 GND (power), F9 VCCIO7 (power), F10 VCCIO7 (power), F13 VCCIO6 (power), F14 VCCIO6 (power), F17 GND (power), F18 TDI (in), G7 GND (power), G16 GND (power), G17 TCLK (in), H15 TMS (in), J5 VCC (power), J6 VCCIO0 (power), J10 GCTL3 (in), J11 GCLK3 (in), J12 GCTL2 (in), J13 GCLK2 (in), J17 VCCIO5 (power), J18 VCCJTAG (power), K5 VCC (power), K6 VCCIO0 (power), K9 GCTL0 (in), K10 GND (power), K11 GND (power), K12 GND (power), K13 GND (power), K14 GCTL1 (in), K17 VCCIO5 (power), K18 VCC (power), L1 GND (power), L9 GCLK0 (in), L10 GND (power), L11 GND (power), L12 GND (power), L13 GND (power), L14 GCLK1 (in), L22 GND (power), M1 GND (power), M10 GND (power), M11 GND (power), M12 GND (power), M13 GND (power), M22 GND (power), N5 VCC (power), N6 VCCIO1 (power), N10 GND (power), N11 GND (power), N12 GND (power), N13 GND (power), N17 VCCIO4 (power), N18 VCC (power), P5 VCC (power), P6 VCCIO1 (power), P8 VCCCNFG (power), P9 Config_Done (out), P17 VCCIO4 (power), P18 VCC (power), R7 DATA (in), R8 Reconfig (in), T7 GND (power), T8 VCCCNFG (power), T16 GND (power), U6 GND (power), U7 CCE (out), U9 VCCIO2 (power), U10 VCCIO2 (power), U13 VCCIO3 (power), U14 VCCIO3 (power), U17 GND (power), V5 GND (power), V6 CCLK (out), V9 VCCCNFG (power), V10 VCCIO2 (power), V13 VCC (power), V14 VCCIO3 (power), V18 GND (power), W2 VCCIO1 (power), W4 GND (power), W5 Reset (out), W19 GND (power), W21 VCCIO4 (power)
part D pins: A3 NC, A4 NC, A19 NC, A20 NC, AA3 NC, AA9 NC, AA14 NC, AA20 NC, AB3 NC, AB4 NC, AB19 NC, AB20 NC, B3 NC, B9 NC, B14 NC, B20 NC, C1 NC, C2 NC, C3 NC, C20 NC, C21 NC, C22 NC, D1 NC, D3 NC, D20 NC, D22 NC, E1 NC, E2 NC, E3 NC, E20 NC, E21 NC, E22 NC, F1 NC, F22 NC, G1 NC, G22 NC, H1 NC, H22 NC, J1 NC, J2 NC, J21 NC, J22 NC, K1 NC, K22 NC, N1 NC, N22 NC, P1 NC, P2 NC, P21 NC, P22 NC, R1 NC, R22 NC, T1 NC, T22 NC, U1 NC, U22 NC, V1 NC, V2 NC, V3 NC, V4 NC, V19 NC, V20 NC, V21 NC, V22 NC, W1 NC, W3 NC, W20 NC, W22 NC, Y1 NC, Y2 NC, Y3 NC, Y20 NC, Y21 NC, Y22 NC

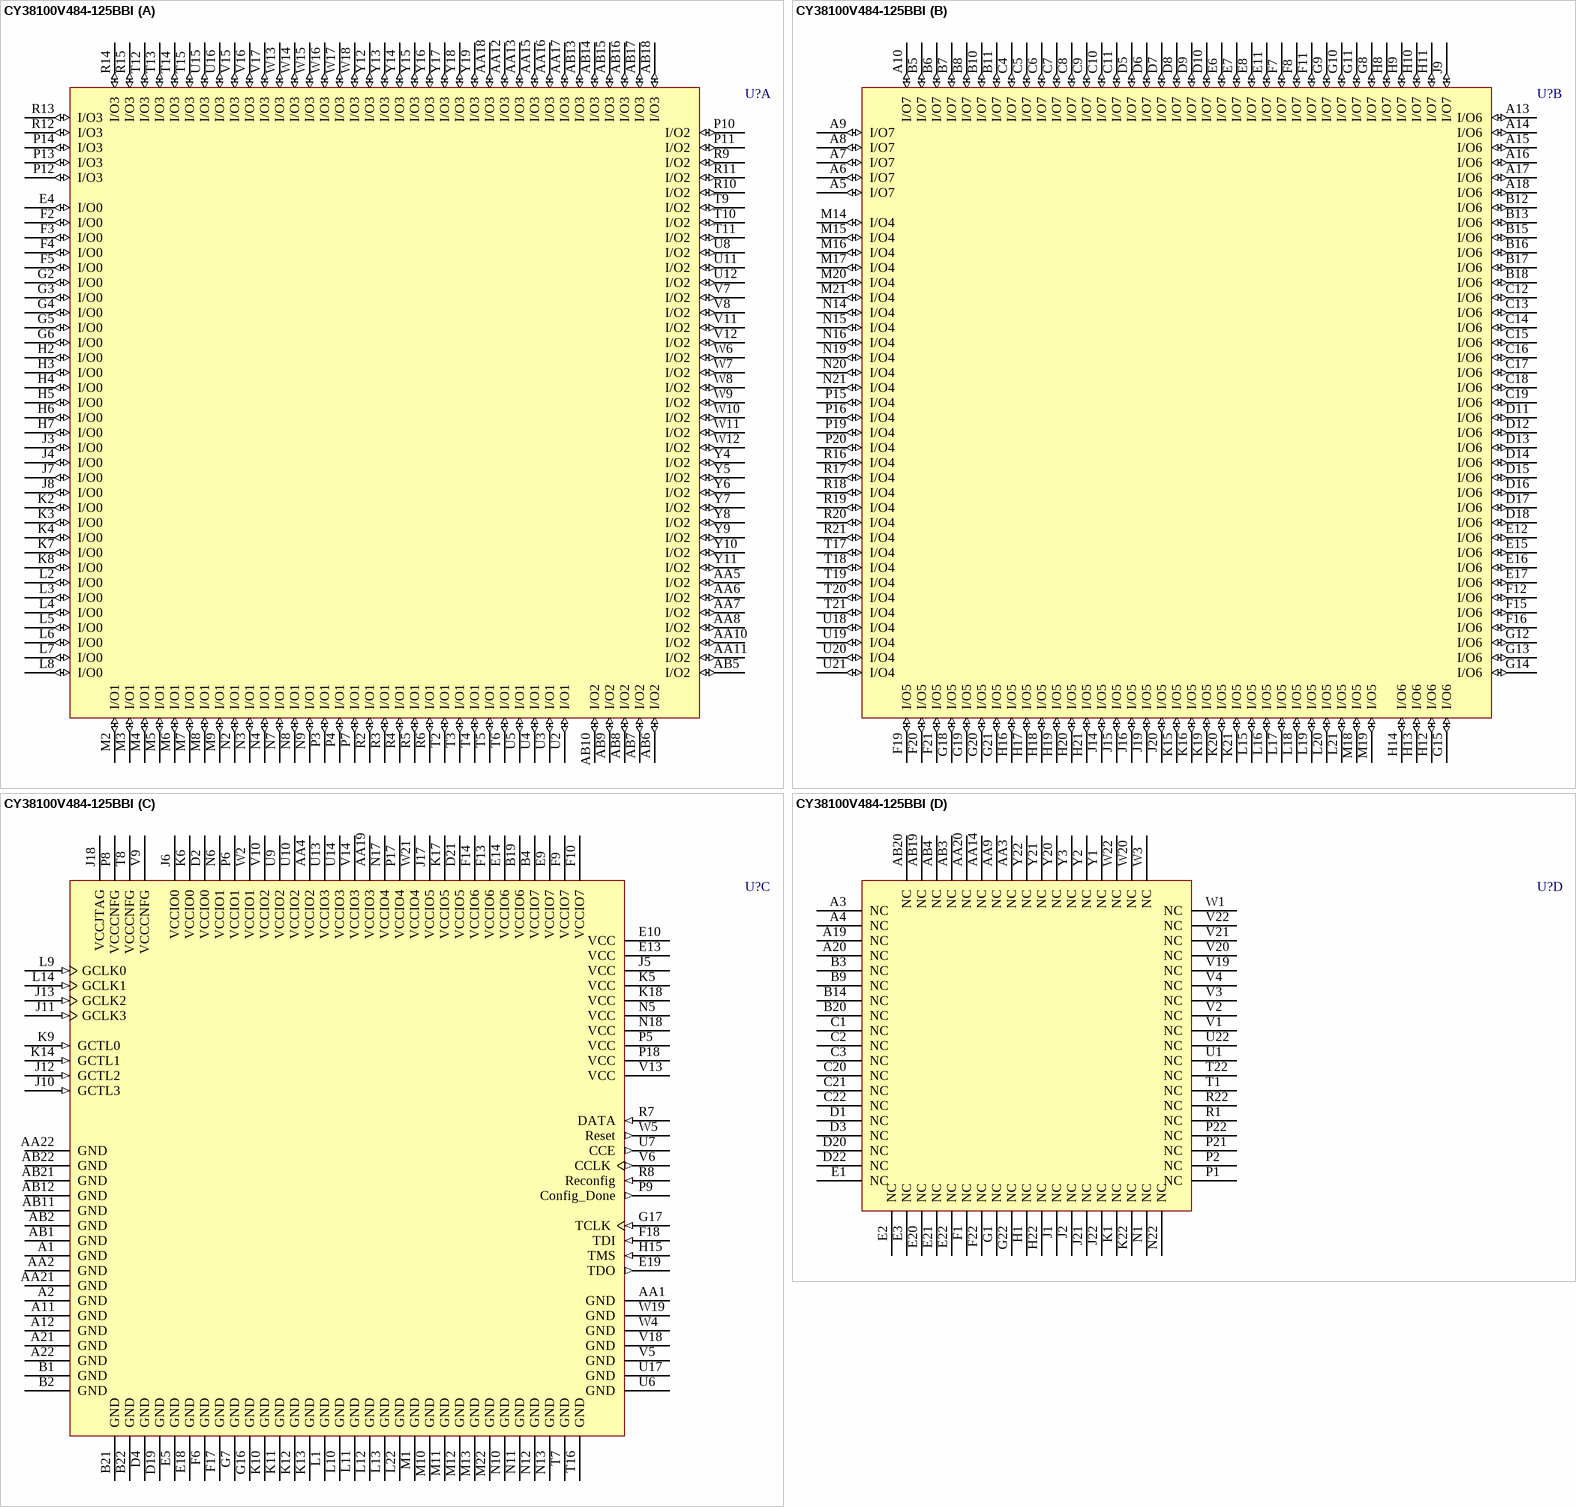
[diagram p17: symbol CY38100V484-125BBI]

## CY38100V484-125BBI
designator U?
Quantum38K ISR CPLD; ComponentAvailability: Not for New Design; Published: 11-Dec-2002; LatestRevisionDate: 13-Apr-2006; LatestRevisionNote: IPC-7351 Footprint Added.; DatasheetVersion: 17-Apr-2002; PackageVersion: Mar-2005; PackageReference: BB484; Publisher: Altium Limited; PackageDescription: 484-Ball Fine Pitch Ball Grid Array 1 mm Pitch; Code_IPC: BGA100P22X22-484; ComponentLink1Description: Manufacturer Link; ComponentLink1URL: http://www.cypress.com/; ComponentLink2Description: Datasheet; ComponentLink2URL: http://www.cypress.com/portal/server.pt/gateway/PTARGS_0_2_1524_209_259_43/http%3B/sjapp20.mis.cypress.com%3B7001/publishedcontent/publish/design_resources/datasheets/contents/cy38030_5.pdf
footprint BB484 (BGA, 484-Leads, Body 23x23mm, Pitch 1mm)
3D model CY38100V484-BB484 (484-Ball Fine Pitch Ball Grid Array 1 mm Pitch)
part A pins: AA5 I/O2 (io), AA6 I/O2 (io), AA7 I/O2 (io), AA8 I/O2 (io), AA10 I/O2 (io), AA11 I/O2 (io), AA12 I/O3 (io), AA13 I/O3 (io), AA15 I/O3 (io), AA16 I/O3 (io), AA17 I/O3 (io), AA18 I/O3 (io), AB5 I/O2 (io), AB6 I/O2 (io), AB7 I/O2 (io), AB8 I/O2 (io), AB9 I/O2 (io), AB10 I/O2 (io), AB13 I/O3 (io), AB14 I/O3 (io), AB15 I/O3 (io), AB16 I/O3 (io), AB17 I/O3 (io), AB18 I/O3 (io), E4 I/O0 (io), F2 I/O0 (io), F3 I/O0 (io), F4 I/O0 (io), F5 I/O0 (io), G2 I/O0 (io), G3 I/O0 (io), G4 I/O0 (io), G5 I/O0 (io), G6 I/O0 (io), H2 I/O0 (io), H3 I/O0 (io), H4 I/O0 (io), H5 I/O0 (io), H6 I/O0 (io), H7 I/O0 (io), J3 I/O0 (io), J4 I/O0 (io), J7 I/O0 (io), J8 I/O0 (io), K2 I/O0 (io), K3 I/O0 (io), K4 I/O0 (io), K7 I/O0 (io), K8 I/O0 (io), L2 I/O0 (io), L3 I/O0 (io), L4 I/O0 (io), L5 I/O0 (io), L6 I/O0 (io), L7 I/O0 (io), L8 I/O0 (io), M2 I/O1 (io), M3 I/O1 (io), M4 I/O1 (io), M5 I/O1 (io), M6 I/O1 (io), M7 I/O1 (io), M8 I/O1 (io), M9 I/O1 (io), N2 I/O1 (io), N3 I/O1 (io), N4 I/O1 (io), N7 I/O1 (io), N8 I/O1 (io), N9 I/O1 (io), P3 I/O1 (io), P4 I/O1 (io), P7 I/O1 (io), P10 I/O2 (io), P11 I/O2 (io), P12 I/O3 (io), P13 I/O3 (io), P14 I/O3 (io), R2 I/O1 (io), R3 I/O1 (io), R4 I/O1 (io), R5 I/O1 (io), R6 I/O1 (io), R9 I/O2 (io), R10 I/O2 (io), R11 I/O2 (io), R12 I/O3 (io), R13 I/O3 (io), R14 I/O3 (io), R15 I/O3 (io), T2 I/O1 (io), T3 I/O1 (io), T4 I/O1 (io), T5 I/O1 (io), T6 I/O1 (io), T9 I/O2 (io), T10 I/O2 (io), T11 I/O2 (io), T12 I/O3 (io), T13 I/O3 (io), T14 I/O3 (io), T15 I/O3 (io), U2 I/O1 (io), U3 I/O1 (io), U4 I/O1 (io), U5 I/O1 (io), U8 I/O2 (io), U11 I/O2 (io), U12 I/O2 (io), U15 I/O3 (io), U16 I/O3 (io), V7 I/O2 (io), V8 I/O2 (io), V11 I/O2 (io), V12 I/O2 (io), V15 I/O3 (io), V16 I/O3 (io), V17 I/O3 (io), W6 I/O2 (io), W7 I/O2 (io), W8 I/O2 (io), W9 I/O2 (io), W10 I/O2 (io), W11 I/O2 (io), W12 I/O2 (io), W13 I/O3 (io), W14 I/O3 (io), W15 I/O3 (io), W16 I/O3 (io), W17 I/O3 (io), W18 I/O3 (io), Y4 I/O2 (io), Y5 I/O2 (io), Y6 I/O2 (io), Y7 I/O2 (io), Y8 I/O2 (io), Y9 I/O2 (io), Y10 I/O2 (io), Y11 I/O2 (io), Y12 I/O3 (io), Y13 I/O3 (io), Y14 I/O3 (io), Y15 I/O3 (io), Y16 I/O3 (io), Y17 I/O3 (io), Y18 I/O3 (io), Y19 I/O3 (io)
part B pins: A5 I/O7 (io), A6 I/O7 (io), A7 I/O7 (io), A8 I/O7 (io), A9 I/O7 (io), A10 I/O7 (io), A13 I/O6 (io), A14 I/O6 (io), A15 I/O6 (io), A16 I/O6 (io), A17 I/O6 (io), A18 I/O6 (io), B5 I/O7 (io), B6 I/O7 (io), B7 I/O7 (io), B8 I/O7 (io), B10 I/O7 (io), B11 I/O7 (io), B12 I/O6 (io), B13 I/O6 (io), B15 I/O6 (io), B16 I/O6 (io), B17 I/O6 (io), B18 I/O6 (io), C4 I/O7 (io), C5 I/O7 (io), C6 I/O7 (io), C7 I/O7 (io), C8 I/O7 (io), C9 I/O7 (io), C10 I/O7 (io), C11 I/O7 (io), C12 I/O6 (io), C13 I/O6 (io), C14 I/O6 (io), C15 I/O6 (io), C16 I/O6 (io), C17 I/O6 (io), C18 I/O6 (io), C19 I/O6 (io), D5 I/O7 (io), D6 I/O7 (io), D7 I/O7 (io), D8 I/O7 (io), D9 I/O7 (io), D10 I/O7 (io), D11 I/O6 (io), D12 I/O6 (io), D13 I/O6 (io), D14 I/O6 (io), D15 I/O6 (io), D16 I/O6 (io), D17 I/O6 (io), D18 I/O6 (io), E6 I/O7 (io), E7 I/O7 (io), E8 I/O7 (io), E11 I/O7 (io), E12 I/O6 (io), E15 I/O6 (io), E16 I/O6 (io), E17 I/O6 (io), F7 I/O7 (io), F8 I/O7 (io), F11 I/O7 (io), F12 I/O6 (io), F15 I/O6 (io), F16 I/O6 (io), F19 I/O5 (io), F20 I/O5 (io), F21 I/O5 (io), G8 I/O7 (io), G9 I/O7 (io), G10 I/O7 (io), G11 I/O7 (io), G12 I/O6 (io), G13 I/O6 (io), G14 I/O6 (io), G15 I/O6 (io), G18 I/O5 (io), G19 I/O5 (io), G20 I/O5 (io), G21 I/O5 (io), H8 I/O7 (io), H9 I/O7 (io), H10 I/O7 (io), H11 I/O7 (io), H12 I/O6 (io), H13 I/O6 (io), H14 I/O6 (io), H16 I/O5 (io), H17 I/O5 (io), H18 I/O5 (io), H19 I/O5 (io), H20 I/O5 (io), H21 I/O5 (io), J9 I/O7 (io), J14 I/O5 (io), J15 I/O5 (io), J16 I/O5 (io), J19 I/O5 (io), J20 I/O5 (io), K15 I/O5 (io), K16 I/O5 (io), K19 I/O5 (io), K20 I/O5 (io), K21 I/O5 (io), L15 I/O5 (io), L16 I/O5 (io), L17 I/O5 (io), L18 I/O5 (io), L19 I/O5 (io), L20 I/O5 (io), L21 I/O5 (io), M14 I/O4 (io), M15 I/O4 (io), M16 I/O4 (io), M17 I/O4 (io), M18 I/O5 (io), M19 I/O5 (io), M20 I/O4 (io), M21 I/O4 (io), N14 I/O4 (io), N15 I/O4 (io), N16 I/O4 (io), N19 I/O4 (io), N20 I/O4 (io), N21 I/O4 (io), P15 I/O4 (io), P16 I/O4 (io), P19 I/O4 (io), P20 I/O4 (io), R16 I/O4 (io), R17 I/O4 (io), R18 I/O4 (io), R19 I/O4 (io), R20 I/O4 (io), R21 I/O4 (io), T17 I/O4 (io), T18 I/O4 (io), T19 I/O4 (io), T20 I/O4 (io), T21 I/O4 (io), U18 I/O4 (io), U19 I/O4 (io), U20 I/O4 (io), U21 I/O4 (io)
part C pins: A1 GND (power), A2 GND (power), A11 GND (power), A12 GND (power), A21 GND (power), A22 GND (power), AA1 GND (power), AA2 GND (power), AA4 VCCIO2 (power), AA19 VCCIO3 (power), AA21 GND (power), AA22 GND (power), AB1 GND (power), AB2 GND (power), AB11 GND (power), AB12 GND (power), AB21 GND (power), AB22 GND (power), B1 GND (power), B2 GND (power), B4 VCCIO7 (power), B19 VCCIO6 (power), B21 GND (power), B22 GND (power), D2 VCCIO0 (power), D4 GND (power), D19 GND (power), D21 VCCIO5 (power), E5 GND (power), E9 VCCIO7 (power), E10 VCC (power), E13 VCC (power), E14 VCCIO6 (power), E18 GND (power), E19 TDO (out), F6 GND (power), F9 VCCIO7 (power), F10 VCCIO7 (power), F13 VCCIO6 (power), F14 VCCIO6 (power), F17 GND (power), F18 TDI (in), G7 GND (power), G16 GND (power), G17 TCLK (in), H15 TMS (in), J5 VCC (power), J6 VCCIO0 (power), J10 GCTL3 (in), J11 GCLK3 (in), J12 GCTL2 (in), J13 GCLK2 (in), J17 VCCIO5 (power), J18 VCCJTAG (power), K5 VCC (power), K6 VCCIO0 (power), K9 GCTL0 (in), K10 GND (power), K11 GND (power), K12 GND (power), K13 GND (power), K14 GCTL1 (in), K17 VCCIO5 (power), K18 VCC (power), L1 GND (power), L9 GCLK0 (in), L10 GND (power), L11 GND (power), L12 GND (power), L13 GND (power), L14 GCLK1 (in), L22 GND (power), M1 GND (power), M10 GND (power), M11 GND (power), M12 GND (power), M13 GND (power), M22 GND (power), N5 VCC (power), N6 VCCIO1 (power), N10 GND (power), N11 GND (power), N12 GND (power), N13 GND (power), N17 VCCIO4 (power), N18 VCC (power), P5 VCC (power), P6 VCCIO1 (power), P8 VCCCNFG (power), P9 Config_Done (out), P17 VCCIO4 (power), P18 VCC (power), R7 DATA (in), R8 Reconfig (in), T7 GND (power), T8 VCCCNFG (power), T16 GND (power), U6 GND (power), U7 CCE (out), U9 VCCIO2 (power), U10 VCCIO2 (power), U13 VCCIO3 (power), U14 VCCIO3 (power), U17 GND (power), V5 GND (power), V6 CCLK (out), V9 VCCCNFG (power), V10 VCCIO2 (power), V13 VCC (power), V14 VCCIO3 (power), V18 GND (power), W2 VCCIO1 (power), W4 GND (power), W5 Reset (out), W19 GND (power), W21 VCCIO4 (power)
part D pins: A3 NC, A4 NC, A19 NC, A20 NC, AA3 NC, AA9 NC, AA14 NC, AA20 NC, AB3 NC, AB4 NC, AB19 NC, AB20 NC, B3 NC, B9 NC, B14 NC, B20 NC, C1 NC, C2 NC, C3 NC, C20 NC, C21 NC, C22 NC, D1 NC, D3 NC, D20 NC, D22 NC, E1 NC, E2 NC, E3 NC, E20 NC, E21 NC, E22 NC, F1 NC, F22 NC, G1 NC, G22 NC, H1 NC, H22 NC, J1 NC, J2 NC, J21 NC, J22 NC, K1 NC, K22 NC, N1 NC, N22 NC, P1 NC, P2 NC, P21 NC, P22 NC, R1 NC, R22 NC, T1 NC, T22 NC, U1 NC, U22 NC, V1 NC, V2 NC, V3 NC, V4 NC, V19 NC, V20 NC, V21 NC, V22 NC, W1 NC, W3 NC, W20 NC, W22 NC, Y1 NC, Y2 NC, Y3 NC, Y20 NC, Y21 NC, Y22 NC